# Altium schematic symbol library LibraryPloshchadnaia.SchLib: 42 symbols
Pins are listed as number, name and electrical type; pins without a type are passive.

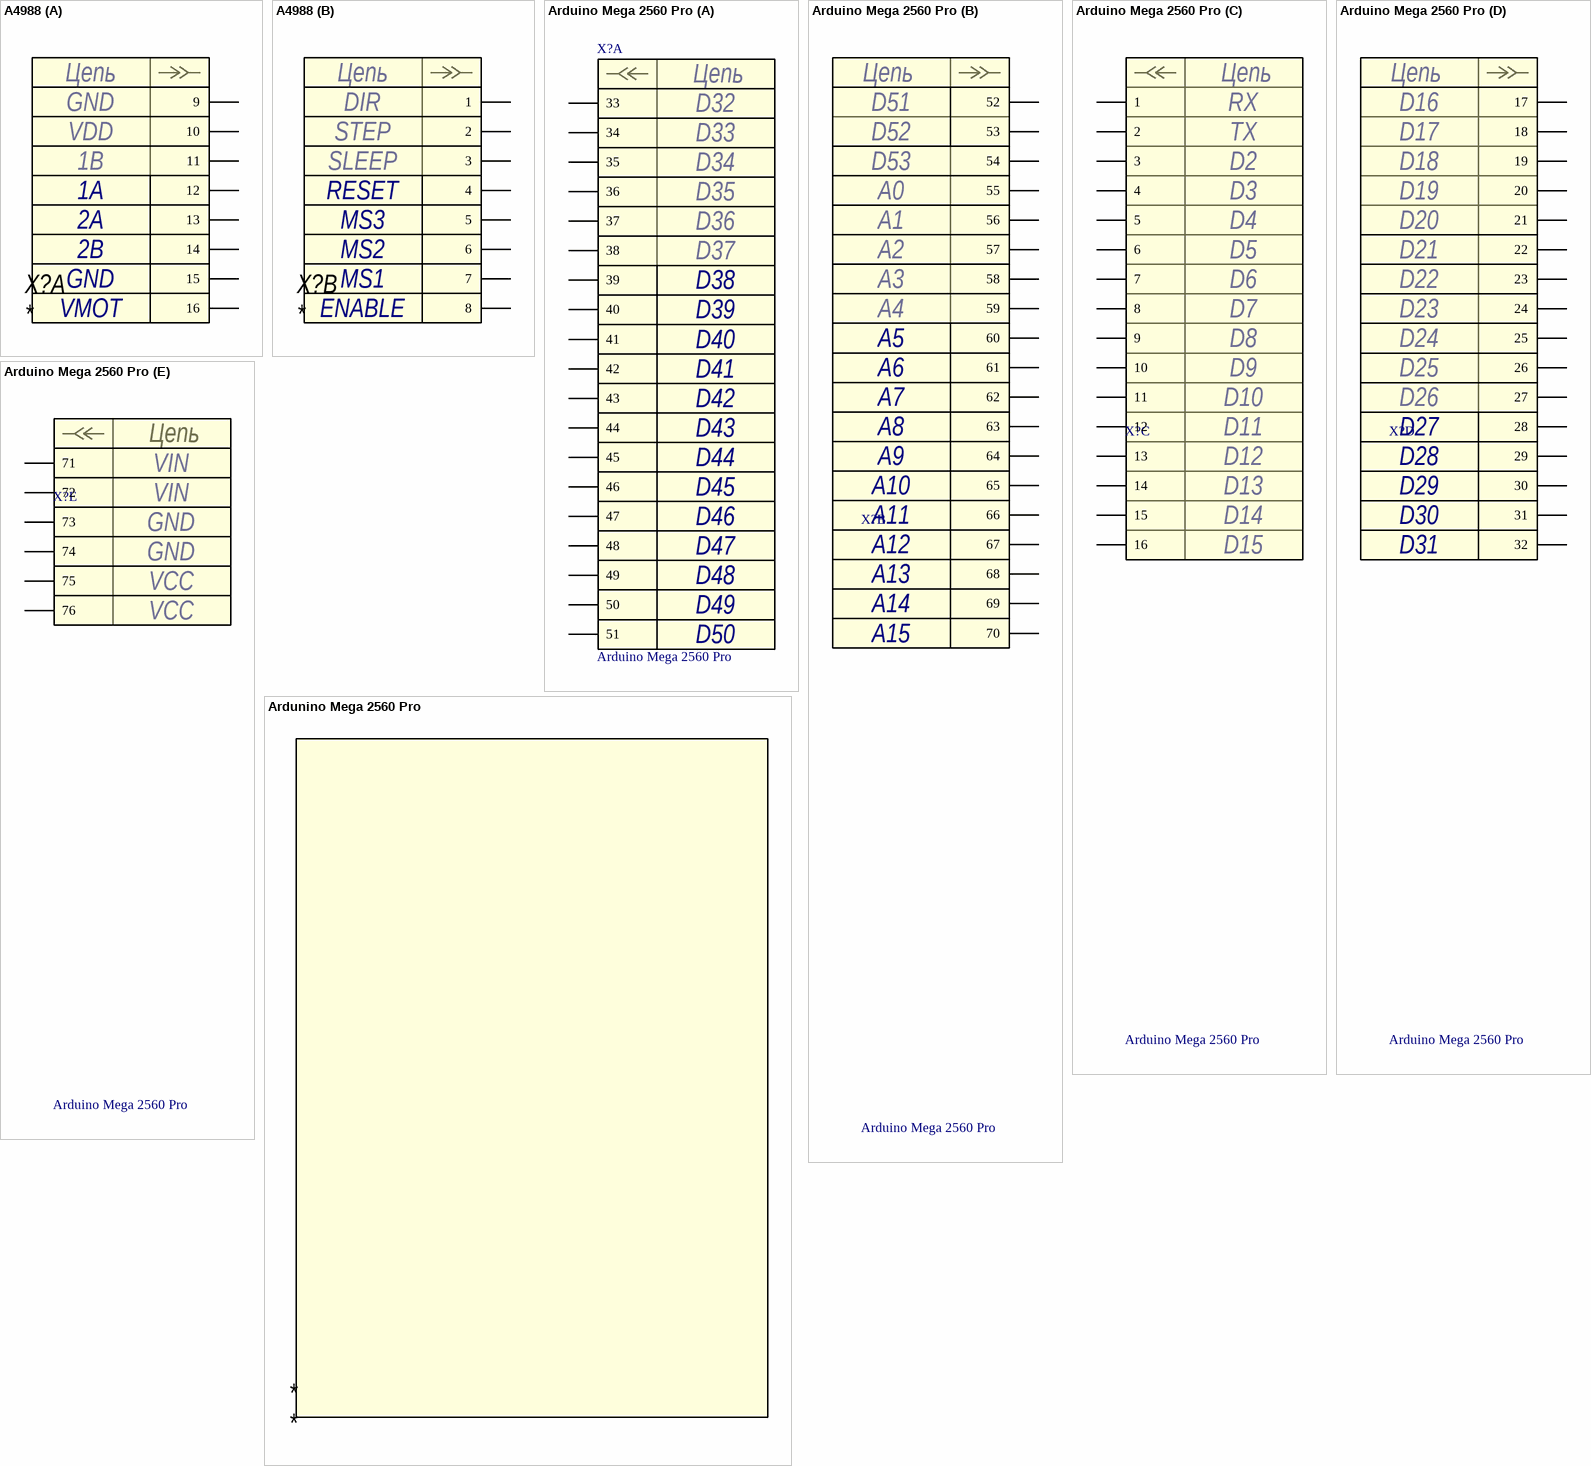
[diagram p0: symbols A4988 to Ardunino Mega 2560 Pro]

## A4988
designator X?
footprint A4988
part A pins: 9, 10, 11, 12, 13, 14, 15, 16
part B pins: 1, 2, 3, 4, 5, 6, 7, 8
part A text: Цепь; GND; VDD; 1B; 1A; 2A; 2B; VMOT
part B text: Цепь; DIR; STEP; SLEEP; RESET; MS3; MS2; MS1; ENABLE

## Arduino Mega 2560 Pro
designator X?
nam: Arduino Mega 2560 Pro; Parameter 1: *
footprint PBD38
part A pins: 33, 34, 35, 36, 37, 38, 39, 40, 41, 42, 43, 44, 45, 46, 47, 48, 49, 50, 51
part B pins: 52, 53, 54, 55, 56, 57, 58, 59, 60, 61, 62, 63, 64, 65, 66, 67, 68, 69, 70
part C pins: 1, 2, 3, 4, 5, 6, 7, 8, 9, 10, 11, 12, 13, 14, 15, 16
part D pins: 17, 18, 19, 20, 21, 22, 23, 24, 25, 26, 27, 28, 29, 30, 31, 32
part E pins: 71, 72, 73, 74, 75, 76
part A text: Цепь; D32; D33; D34; D35; D36; D37; D38; D39; D40; D41; D42; D43; D44; D45; D46; D47; D48; D49; D50
part B text: Цепь; D51; D52; D53; A0; A1; A2; A3; A4; A5; A6; A7; A8; A9; A10; A11; A12; A13; A14; A15
part C text: Цепь; RX; TX; D2; D3; D4; D5; D6; D7; D8; D9; D10; D11; D12; D13; D14; D15
part D text: Цепь; D16; D17; D18; D19; D20; D21; D22; D23; D24; D25; D26; D27; D28; D29; D30; D31
part E text: Цепь; VIN; GND; VCC

## Ardunino Mega 2560 Pro
designator *

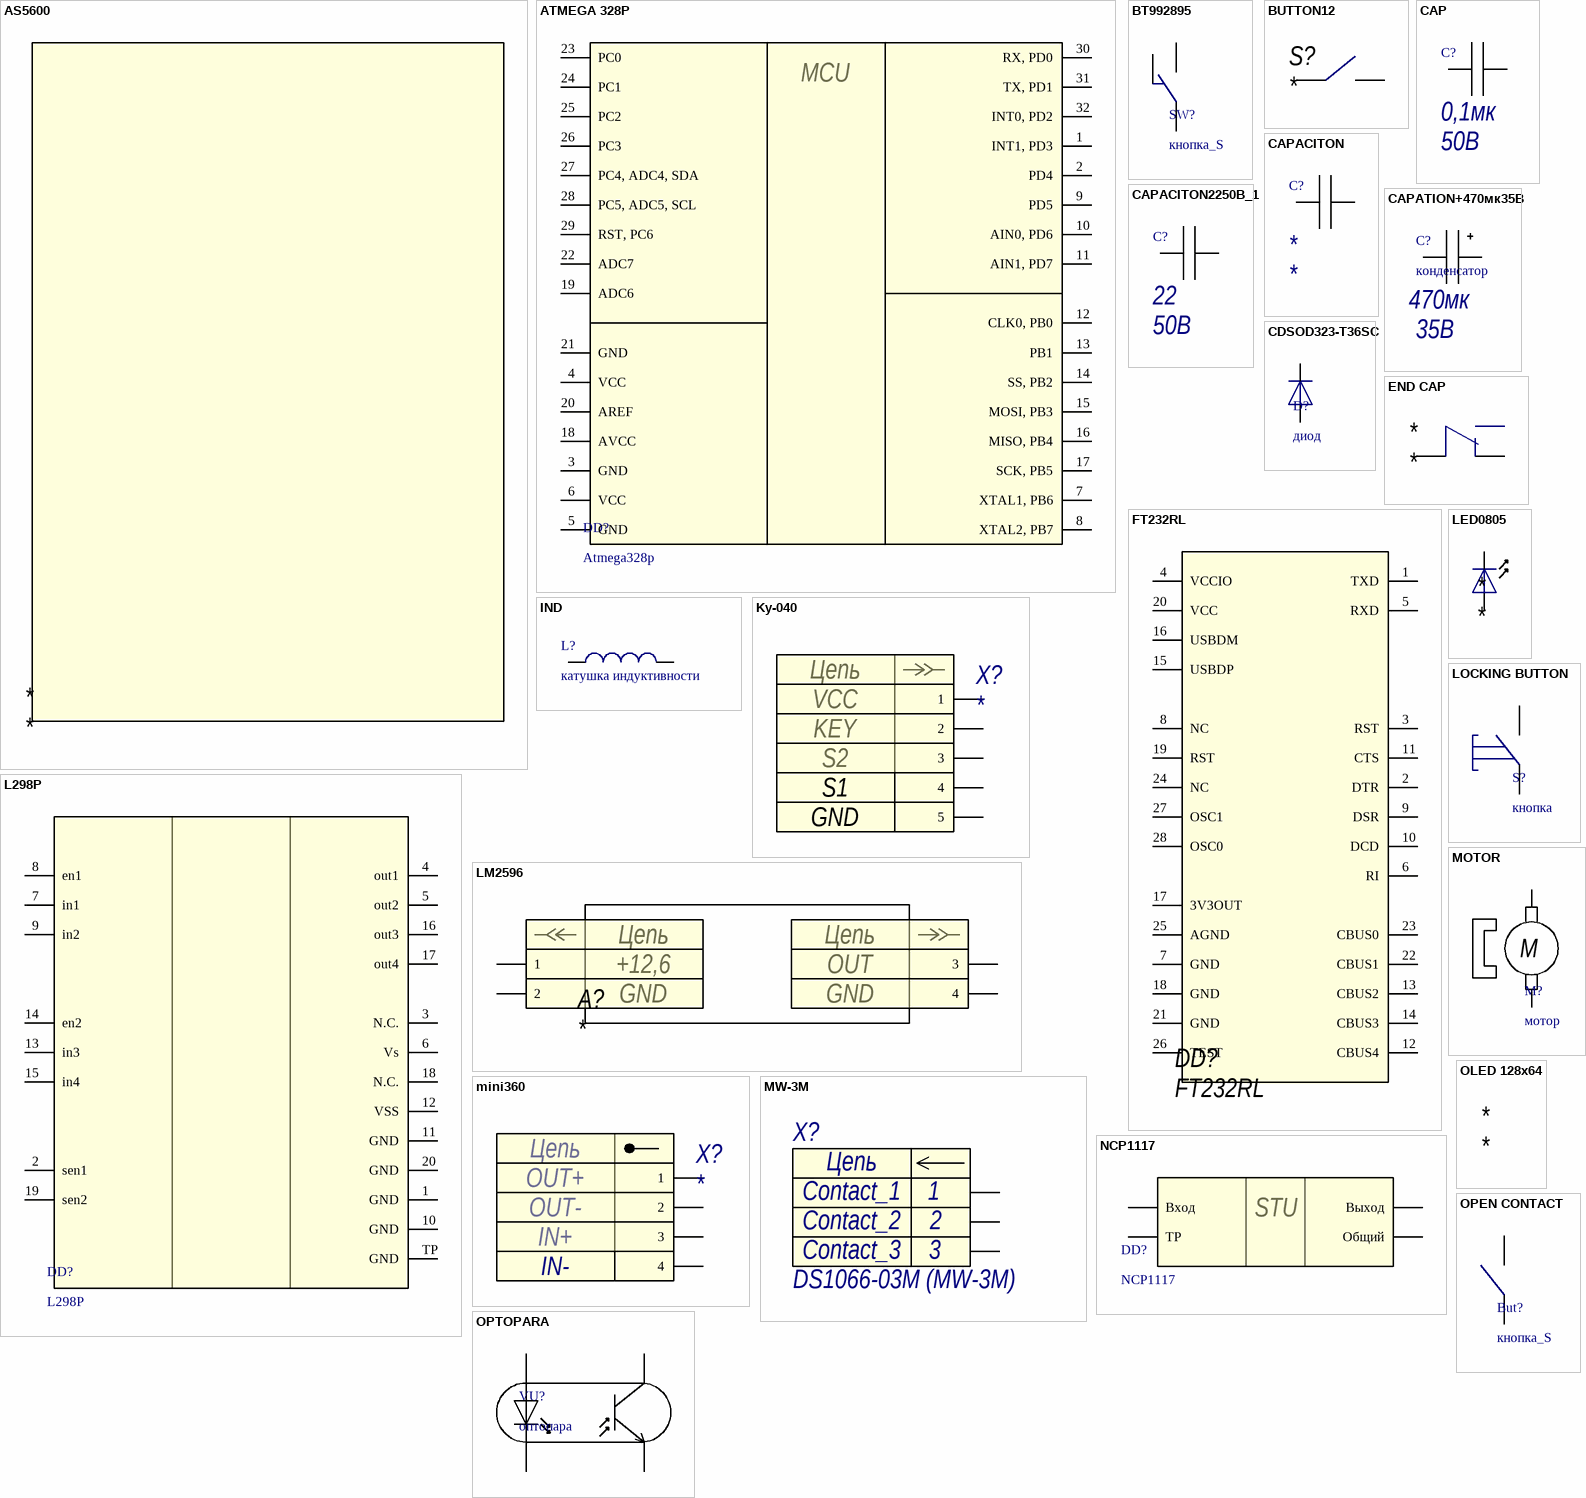
[diagram p1: symbols AS5600 to OPTOPARA]

## AS5600
designator *

## ATMEGA 328P
designator DD?, comment Atmega328p
nam: Atmega328p
footprint ATMEGA328P
pins: 1 INT1, PD3, 2 PD4, 3 GND, 4 VCC, 5 GND, 6 VCC, 7 XTAL1, PB6, 8 XTAL2, PB7, 9 PD5, 10 AIN0, PD6, 11 AIN1, PD7, 12 CLK0, PB0, 13 PB1, 14 SS, PB2, 15 MOSI, PB3, 16 MISO, PB4, 17 SCK, PB5, 18 AVCC, 19 ADC6, 20 AREF, 21 GND, 22 ADC7, 23 PC0, 24 PC1, 25 PC2, 26 PC3, 27 PC4, ADC4, SDA, 28 PC5, ADC5, SCL, 29 RST, PC6, 30 RX, PD0, 31 TX, PD1, 32 INT0, PD2
text: MCU

## BT992895
designator SW?, comment кнопка_S
крутые переключатели с бимов; nam: кнопка_S
footprint SWITCH
footprint SS-12D00G3
footprint THT12
pins: 1, 2, 3

## BUTTON12
designator S?
pins: 1, 2

## CAP
designator C?, comment voltage: 50В  nominal: 0,1мк  (hidden comment: конденсатор)
nam: конденсатор; Parameter 1: *
footprint C0603 (Chip Capacitor, 2-Leads, Body 1,60x0,80mm, IPC Medium Density)
pins: 1, 2

## CAPACITON
designator C?, comment конденсатор  (value not drawn)
nam: конденсатор; voltage: *; nominal: *
footprint CAPATION 1210
pins: 1, 2

## CAPACITON2250В_1
designator C?, comment voltage: 50В  nominal: 22  (hidden comment: конденсатор)
nam: конденсатор
footprint CAPATION0805
pins: 1, 2

## CAPATION+470мк35В
designator C?, comment конденсатор  voltage: 35В  nominal: 470мк
nam: конденсатор
footprint SH035M0470B5S-1015
footprint SH035M0470B5S-1015-UP (10x15)
pins: 1, 2

## CDSOD323-T36SC
designator D?, comment диод
nam: диод
footprint DIOD323
pins: 1, 2

## END CAP
designator *
pins: 1, 2

## FT232RL
designator DD?
nam: FT232RL
pins: 1 TXD, 2 DTR, 3 RST, 4 VCCIO, 5 RXD, 6 RI, 7 GND, 8 NC, 9 DSR, 10 DCD, 11 CTS, 12 CBUS4, 13 CBUS2, 14 CBUS3, 15 USBDP, 16 USBDM, 17 3V3OUT, 18 GND, 19 RST, 20 VCC, 21 GND, 22 CBUS1, 23 CBUS0, 24 NC, 25 AGND, 26 TEST, 27 OSC1, 28 OSC0

## IND
designator L?, comment катушка индуктивности
nam: катушка индуктивности
footprint I0805 (inductor)
footprint BLM18BD102SN1D
pins: 1, 2

## Ky-040
designator X?
footprint pls-6
pins: 1, 2, 3, 4, 5
text: Цепь; VCC; KEY; S2; S1; GND

## L298P
designator DD?
nam: L298P
footprint l298p
pins: 1 GND, 2 sen1, 3 N.C., 4 out1, 5 out2, 6 Vs, 7 in1, 8 en1, 9 in2, 10 GND, 11 GND, 12 VSS, 13 in3, 14 en2, 15 in4, 16 out3, 17 out4, 18 N.C., 19 sen2, 20 GND, TP GND

## LED0805
designator *
footprint LED0805
pins: 1, 2

## LM2596
designator A?
Contact_1: +12,6; Contact_2: GND; Contact_3: OUT
footprint LM2596
pins: 1, 2, 3, 4
text: Цепь

## LOCKING BUTTON
designator S?, comment кнопка
nam: кнопка
footprint Button
footprint it-1187
pins: 1, 2

## mini360
designator X?
стаб 18 на 12 мм
footprint mini360
pins: 1, 1, 2, 3, 4
text: Цепь; OUT+; OUT-; IN+; IN-

## MOTOR
designator M?, comment мотор
nam: мотор
footprint terminal-block
pins: 1, 2
text: M

## MW-3M
designator X?, comment DS1066-03M (MW-3M)
Разъем - 3 конт. прямая вилка на плату; Contact_1: Contact_1; Contact_2: Contact_2; Contact_3: Contact_3; Name: DS1066-03M (MW-3M)
footprint MW-3M
pins: 1, 2, 3
text: Цепь

## NCP1117
designator DD?
nam: NCP1117
footprint SOT223
pins: 1 Общий, 2 Выход, 3 Вход, 4 TP
text: STU

## OLED 128x64
designator *

## OPEN CONTACT
designator But?, comment кнопка_S
nam: кнопка_S
footprint SWITCH
footprint SS-12D00G3
footprint THT12
pins: 1, 2

## OPTOPARA
designator VU?, comment оптопара
nam: оптопара
footprint KTIR0711S
pins: 1, 1, 2, 2, 3, 4

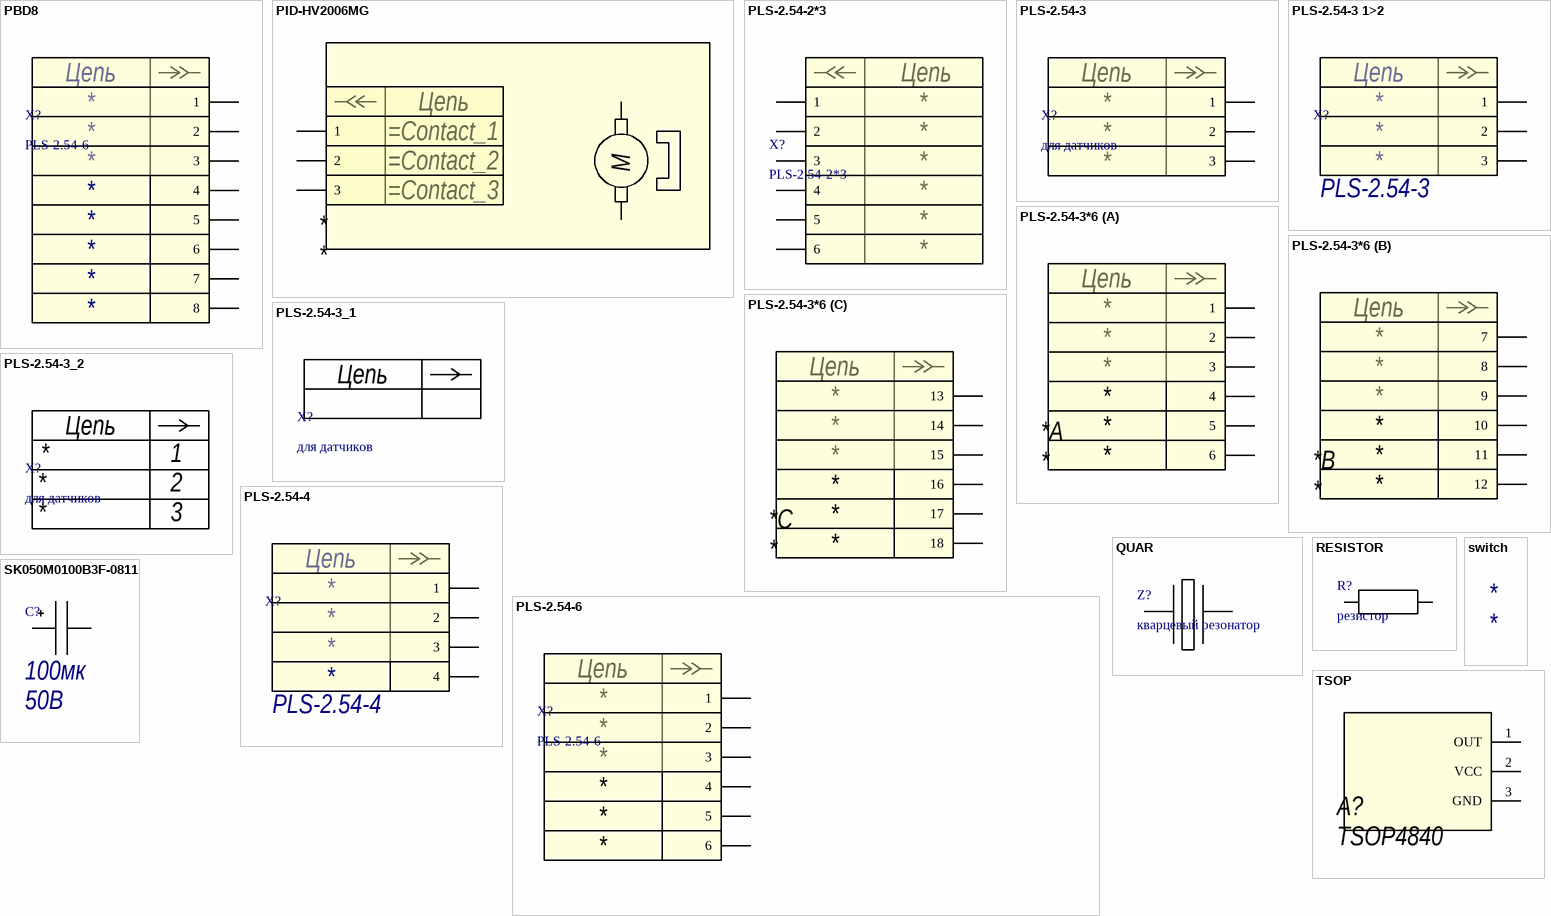
[diagram p2: symbols PBD8 to TSOP]

## PBD8
designator X?, comment PLS-2.54-6
nam: PLS-2.54-6; Contact_1: *; Contact_2: *; Contact_3: *; Contact_4: *; Contact_5: *; Contact_6: *; Contact_8: *; Contact_7: *; Parameter 1: *
footprint PBD8
pins: 1, 2, 3, 4, 5, 6, 7, 8
text: Цепь

## PID-HV2006MG
designator *
pins: 1, 1, 2, 2, 3
text: Цепь; M

## PLS-2.54-2*3
designator X?
Contact1: *; Contact2: *; Contact3: *; Contact4: *; Contact5: *; Contact6: *; nam: PLS-2.54-2*3
footprint PLS2.54-2*3
pins: 1, 2, 3, 4, 5, 6
text: Цепь

## PLS-2.54-3
designator X?, comment для датчиков
nam: для датчиков; Contact_1: *; Contact_2: *; Contact_3: *
footprint PLS-2.54-3
pins: 1, 2, 3
text: Цепь

## PLS-2.54-3 1>2
designator X?, comment PLS-2.54-3
Contact_1: *; Contact_2: *; Contact_3: *; nam: PLS-2.54-3
footprint PLS-2.54-3
pins: 1, 2, 3
text: Цепь

## PLS-2.54-3*6
designator *
Contact_1: *; Contact_2: *; Contact_3: *; Contact_4: *; Contact_5: *; Contact_6: *; Contact_7: *; Contact_8: *; Contact_9: *; Contact_10: *; Contact_11: *; Contact_12: *; Contact_13: *; Contact_14: *; Contact_15: *; Contact_16: *; Contact_17: *; Contact_18: *
footprint PLS-2.54-3*6
part A pins: 1, 2, 3, 4, 5, 6
part B pins: 7, 8, 9, 10, 11, 12
part C pins: 13, 14, 15, 16, 17, 18
part A text: Цепь
part B text: Цепь
part C text: Цепь

## PLS-2.54-3_1
designator X?, comment для датчиков
nam: для датчиков; Contact_1: *; Contact_2: *; Contact_3: *
footprint PLS-2.54-3
text: Цепь

## PLS-2.54-3_2
designator X?, comment для датчиков
nam: для датчиков; Contact_1: *; Contact_2: *; Contact_3: *
footprint PLS-2.54-3
text: Цепь; 1; 2; 3

## PLS-2.54-4
designator X?
Contact_1: *; Contact_2: *; Contact_3: *; Contact_4: *; nam: PLS-2.54-4
footprint PLS-2.54-4
pins: 1, 2, 3, 4
text: Цепь

## PLS-2.54-6
designator X?
nam: PLS-2.54-6; Contact_1: *; Contact_2: *; Contact_3: *; Contact_4: *; Contact_5: *; Contact_6: *
footprint pls-6r  + vl53l0x
pins: 1, 2, 3, 4, 5, 6
text: Цепь; /

## QUAR
designator Z?, comment кварцевый резонатор
nam: кварцевый резонатор
footprint WTL3M85263FO
pins: 1, 3

## RESISTOR
designator R?, comment резистор
nam: резистор
footprint Resistor0805
pins: 1, 2

## SK050M0100B3F-0811
designator C?, comment voltage: 50В  nominal: 100мк  (hidden comment: конденсатор)
nam: конденсатор
footprint SK050M0100B3F-0811-up
pins: 1, 2

## switch
designator *

## TSOP
designator A?, comment TSOP4840
nam: TSOP4840
footprint TSOP (????? ????? ? ????????? ??? gnd)
pins: 1 OUT, 2 VCC, 3 GND